# Altium footprint library DC-DC switching regulators.PcbLib: 10 footprints
Each footprint in its own frame and in the unit in brackets; x right, y up, seen from the top. Pads: shape width x height; smd on the part's side, far side on the other; paste and mask are expansions set on the pad; w line width, h text height; cw(c..) or ccw(c..) is an arc to the next point about the centre after c.
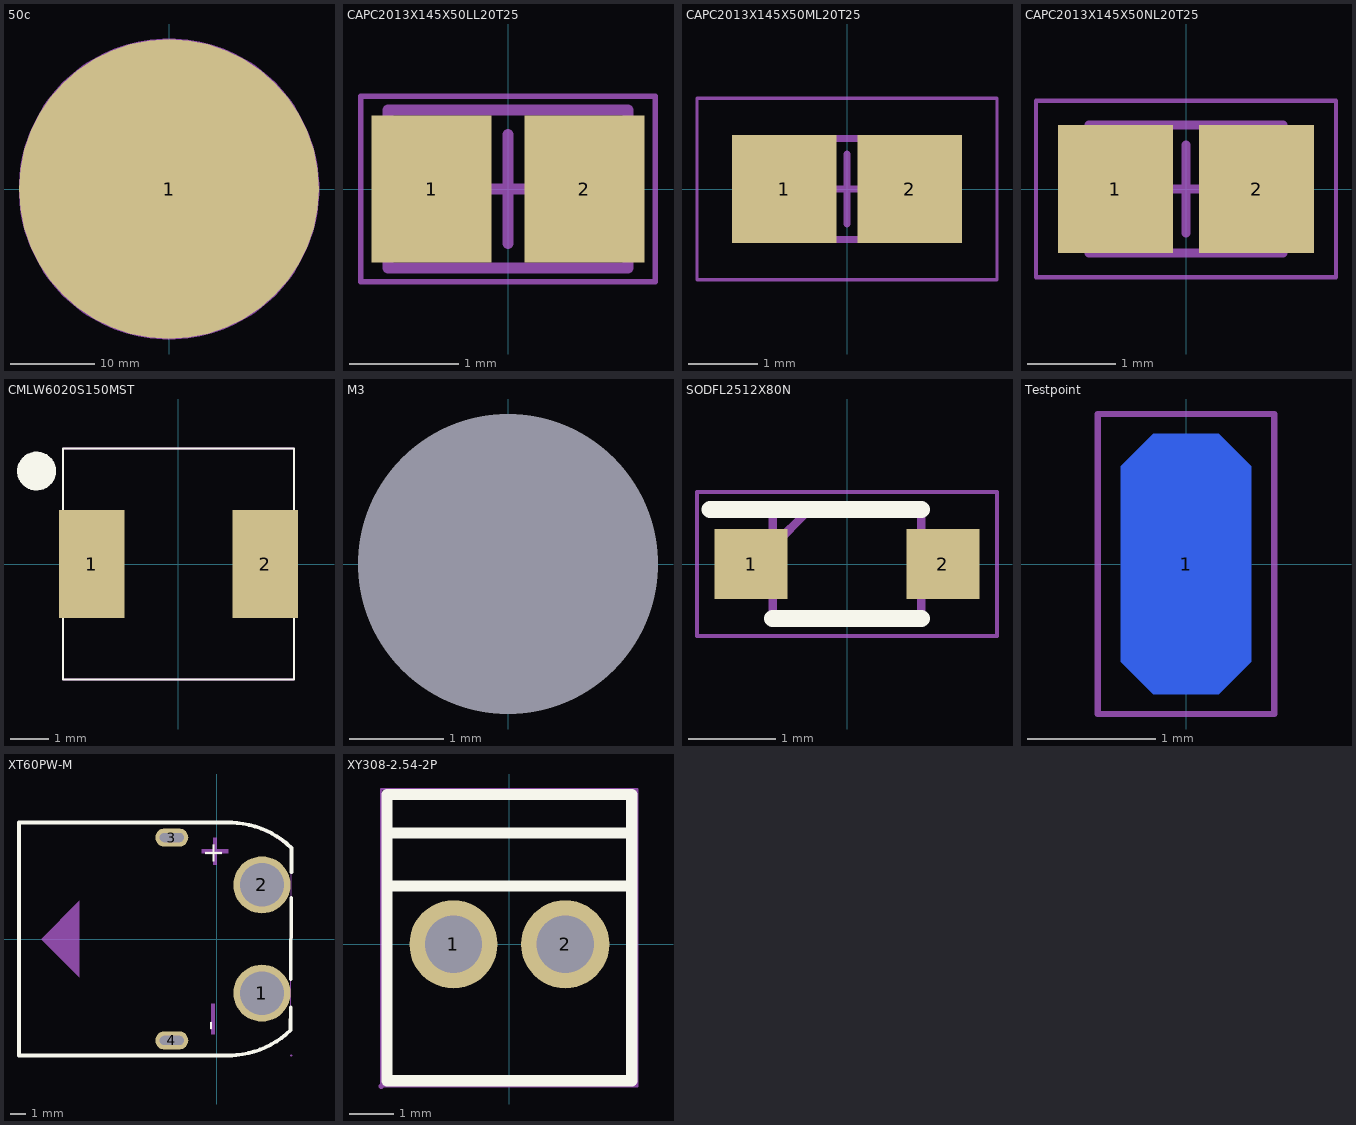
[diagram p0: the footprints below, top view; thin cyan lines are the x and y axes]

## 50c [mm]
pads (1):
  round 35.65 smd paste-2539.97 mask+0: 1(0,0)
Mechanical 1:
  circle w0.1: c0,0 r17.825
  region: 0,-17.825 -0.584,-17.825 -1.748,-17.749 -2.905,-17.596 -4.05,-17.369 -5.177,-17.067 -6.282,-16.691 -7.36,-16.245 -8.407,-15.729 -9.418,-15.145 -10.388,-14.497 -11.314,-13.786 -12.192,-13.017 -13.017,-12.192 -13.786,-11.314 -14.497,-10.388 -15.145,-9.418 -15.729,-8.407 -16.245,-7.36 -16.691,-6.282 -17.067,-5.177 -17.369,-4.05 -17.596,-2.905 -17.749,-1.748 -17.825,-0.584 -17.825,0 -17.825,0.584 -17.749,1.748 -17.596,2.905 -17.369,4.05 -17.067,5.177 -16.691,6.282 -16.245,7.36 -15.729,8.407 -15.145,9.418 -14.497,10.388 -13.786,11.314 -13.017,12.192 -12.192,13.017 -11.314,13.786 -10.388,14.497 -9.418,15.145 -8.407,15.729 -7.36,16.245 -6.282,16.691 -5.177,17.067 -4.05,17.369 -2.905,17.596 -1.748,17.749 -0.584,17.825 0,17.825 0.584,17.825 1.748,17.749 2.905,17.596 4.05,17.369 5.177,17.067 6.282,16.691 7.36,16.245 8.407,15.729 9.418,15.145 10.388,14.497 11.314,13.786 12.192,13.017 13.017,12.192 13.786,11.314 14.497,10.388 15.145,9.418 15.729,8.407 16.245,7.36 16.691,6.282 17.067,5.177 17.369,4.05 17.596,2.905 17.749,1.748 17.825,0.584 17.825,0 17.825,-0.584 17.749,-1.748 17.596,-2.905 17.369,-4.05 17.067,-5.177 16.691,-6.282 16.245,-7.36 15.729,-8.407 15.145,-9.418 14.497,-10.388 13.786,-11.314 13.017,-12.192 12.192,-13.017 11.314,-13.786 10.388,-14.497 9.418,-15.145 8.407,-15.729 7.36,-16.245 6.282,-16.691 5.177,-17.067 4.05,-17.369 2.905,-17.596 1.748,-17.749 0.584,-17.825
3D body: height 1, standoff 0, extent -17.825,-17.825 17.825,17.825

## CAPC2013X145X50LL20T25 [mm] "Chip Capacitor, 2-Leads, Body 2.00x1.25mm, IPC High Density"
height 1.45
pads (2):
  rect 1.1x1.35 smd: 1(-0.7,0) 2(0.7,0)
Mechanical 13:
  lines w0.1: -1.1,-0.725 -1.1,0.725 1.1,0.725 1.1,-0.725 -1.1,-0.725
Mechanical 15:
  lines w0.05: -1.35,-0.85 -1.35,0.85 1.35,0.85 1.35,-0.85 -1.35,-0.85
  lines w0.1: -0.5,0 0.5,0 ; 0,-0.5 0,0.5
3D body: height 1.45, standoff 0, extent -0.6,-0.725 0.6,0.725
3D body: height 1.45, standoff 0, extent -1.1,-0.725 -0.6,0.725
3D body: height 1.45, standoff 0, extent 0.6,-0.725 1.1,0.725

## CAPC2013X145X50ML20T25 [mm] "Chip Capacitor, 2-Leads, Body 2.00x1.25mm, IPC Low Density"
height 1.45
pads (2):
  rect 1.5x1.55 smd: 1(-0.9,0) 2(0.9,0)
Mechanical 13:
  lines w0.1: -1.1,-0.725 -1.1,0.725 1.1,0.725 1.1,-0.725 -1.1,-0.725
Mechanical 15:
  lines w0.05: -2.15,-1.3 -2.15,1.3 2.15,1.3 2.15,-1.3 -2.15,-1.3
  lines w0.1: -0.5,0 0.5,0 ; 0,-0.5 0,0.5
3D body: height 1.45, standoff 0, extent -0.6,-0.725 0.6,0.725
3D body: height 1.45, standoff 0, extent -1.1,-0.725 -0.6,0.725
3D body: height 1.45, standoff 0, extent 0.6,-0.725 1.1,0.725

## CAPC2013X145X50NL20T25 [mm] "Chip Capacitor, 2-Leads, Body 2.00x1.25mm, IPC Medium Density"
height 1.45
pads (2):
  rect 1.3x1.45 smd: 1(-0.8,0) 2(0.8,0)
Mechanical 13:
  lines w0.1: -1.1,-0.725 1.1,-0.725 1.1,0.725 -1.1,0.725 -1.1,-0.725
Mechanical 15:
  lines w0.05: -1.7,-1 1.7,-1 1.7,1 -1.7,1 -1.7,-1
  lines w0.1: -0.5,0 0.5,0 ; 0,-0.5 0,0.5
3D body: height 1.45, standoff 0, extent 0.6,-0.725 1.1,0.725
3D body: height 1.45, standoff 0, extent -1.1,-0.725 -0.6,0.725
3D body: height 1.45, standoff 0, extent -0.6,-0.725 0.6,0.725

## CMLW6020S150MST [mm]
pads (2):
  rect 1.7x2.8 smd: 1(-2.25,0) 2(2.25,0)
Top Overlay:
  circle w0.1: c-3.683,2.413 r0.458
  region: -3.683,1.955 -3.774,1.955 -3.942,2.025 -4.071,2.154 -4.141,2.322 -4.141,2.413 -4.141,2.504 -4.071,2.672 -3.942,2.801 -3.774,2.871 -3.683,2.871 -3.592,2.871 -3.424,2.801 -3.295,2.672 -3.225,2.504 -3.225,2.413 -3.225,2.322 -3.295,2.154 -3.424,2.025 -3.592,1.955
  lines w0.05: -3,-3 3,-3 3,3 -3,3 -3,-3
Mechanical 1:
  lines w0.05: -3,-3 3,-3 3,3 -3,3 -3,-3
3D body: height 2, standoff 0, extent -3,-3 3,3

## M3 [mm] "M3 drill hole"
pads (1):
  round 0 hole 3.2 unplated paste+0 mask+0: 1(0,0)

## SODFL2512X80N [mm]
pads (2):
  rect 0.84x0.8 smd: 1(-1.1,0) 2(1.1,0)
Top Overlay:
  lines w0.2: -1.57,0.625 0.85,0.625 ; -0.85,-0.625 0.85,-0.625
Mechanical 13:
  lines w0.1: -0.85,0.205 -0.43,0.625 ; -0.85,-0.625 0.85,-0.625 0.85,0.625 -0.85,0.625 -0.85,-0.625
Mechanical 15:
  lines w0.05: -1.72,-0.825 1.72,-0.825 1.72,0.825 -1.72,0.825 -1.72,-0.825
3D body "BAS16J.stp": height 0.71, standoff 0, extent -1.251,-0.627 1.249,0.623

## Testpoint [mil]
pads (1):
  oct 40x80 smd far side: 1(0,0)
Mechanical 1:
  lines w1.97: -27,-46 27,-46 27,46 -27,46 -27,-46

## XT60PW-M [mm]
pads (4):
  round 3.8 hole 2.9 paste-2539.97 mask+0.05: 1(3,-3.6) 2(3,3.6)
  oval 2.2x1.2 hole 0.6 slot 1.6 at 0 deg paste-2539.97 mask+0.05: 3(-3,6.75) 4(-3,-6.75)
Top Overlay:
  lines w0.254: 0.889,-7.747 ccw(c0.746,-1.749) 4.917,-6.062 ; 0.937,7.747 cw(c0.794,1.749) 4.965,6.062 4.956,4.441 ; 1,-7.75 -13.165,-7.75 -13.165,7.75 1,7.75 ; 4.902,-5.994 4.909,-4.544 ; 4.919,-2.676 4.948,2.738
  text "-" at 0.11,-6.096 h1.33
  text "+" at 0.364,4.953 h1.33
Mechanical 6:
  region: -9.144,2.54 -9.144,-2.54 -11.684,0
  region: -0.254,6.731 0,6.731 0,5.969 0.762,5.969 0.762,5.715 0,5.715 0,4.953 -0.254,4.953 -0.254,5.715 -1.016,5.715 -1.016,5.969 -0.254,5.969
  region: -0.381,-4.318 -0.127,-4.318 -0.127,-6.35 -0.381,-6.35
Mechanical 15:
  region: 5.013,-7.747 5.012,-7.723 4.977,-7.69 4.929,-7.69 4.894,-7.723 4.893,-7.747 4.894,-7.771 4.929,-7.805 4.977,-7.805 5.012,-7.771 5.013,-7.747
  region: 4,3.6 4,3.732 3.932,3.986 3.8,4.214 3.614,4.4 3.386,4.532 3.132,4.6 2.868,4.6 2.614,4.532 2.386,4.4 2.2,4.214 2.068,3.986 2,3.732 2,3.6 2,3.468 2.068,3.214 2.2,2.986 2.386,2.8 2.614,2.668 2.868,2.6 3.132,2.6 3.386,2.668 3.614,2.8 3.8,2.986 3.932,3.214 4,3.468 4,3.6
  region: 4,-3.6 4,-3.468 3.932,-3.214 3.8,-2.986 3.614,-2.8 3.386,-2.668 3.132,-2.6 2.868,-2.6 2.614,-2.668 2.386,-2.8 2.2,-2.986 2.068,-3.214 2,-3.468 2,-3.6 2,-3.732 2.068,-3.986 2.2,-4.214 2.386,-4.4 2.614,-4.532 2.868,-4.6 3.132,-4.6 3.386,-4.532 3.614,-4.4 3.8,-4.214 3.932,-3.986 4,-3.732 4,-3.6
  region: -2.4,6.95 -2.4,6.55 -3.6,6.55 -3.6,6.95
  region: -2.4,-6.55 -2.4,-6.95 -3.6,-6.95 -3.6,-6.55
  lines w0.051: -13.165,-7.747 1.143,-7.747 2.159,-7.493 3.175,-7.239 3.937,-6.858 4.699,-6.223 4.902,-5.994 4.953,5.969 4.826,6.096 3.81,6.858 2.794,7.366 1.778,7.62 1.016,7.747 -13.165,7.747 -13.165,-7.747

## XY308-2.54-2P [mm] "1x2P 6A 150V Green 18~26 Straight 2.54mm 1 1 2 Plugin,P=2.54mm Screw terminal ROHS"
pads (2):
  round 2 hole 1.3 paste-2539.97 mask+0.051: 1(-1.27,0) 2(1.27,0)
Top Overlay:
  lines w0.254: -2.78,1.327 2.78,1.327 ; -2.78,2.525 2.78,2.525 ; -2.78,-3.1 -2.78,3.4 2.78,3.4 2.78,-3.1 -2.78,-3.1
Mechanical 15:
  region: -2.847,-3.227 -2.847,-3.202 -2.882,-3.167 -2.932,-3.167 -2.967,-3.202 -2.967,-3.227 -2.967,-3.252 -2.932,-3.287 -2.882,-3.287 -2.847,-3.252 -2.847,-3.227
  region: 1.82,0 1.819,0.109 1.734,0.308 1.579,0.461 1.379,0.544 1.161,0.544 0.961,0.461 0.806,0.308 0.721,0.109 0.72,0 0.721,-0.109 0.806,-0.308 0.961,-0.461 1.161,-0.544 1.379,-0.544 1.579,-0.461 1.734,-0.308 1.819,-0.109 1.82,0
  region: -0.72,0 -0.721,0.109 -0.806,0.308 -0.961,0.461 -1.161,0.544 -1.379,0.544 -1.579,0.461 -1.734,0.308 -1.819,0.109 -1.82,0 -1.819,-0.109 -1.734,-0.308 -1.579,-0.461 -1.379,-0.544 -1.161,-0.544 -0.961,-0.461 -0.806,-0.308 -0.721,-0.109 -0.72,0
  lines w0.051: -2.907,-3.227 -2.907,3.527 2.907,3.527 2.907,-3.227 -2.907,-3.227